# Altium schematic symbol library XT+PHOENIX.SchLib: 1 symbol
Pins are listed as number, name and electrical type; pins without a type are passive.

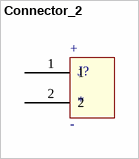
[diagram p0: symbol Connector_2]

## Connector_2
designator J?
footprint Phoenix
footprint XT60_FEMALE_PANEL
pins: 1, 2
text: +; -